# Altium integrated library 6130XX11121_61301611121.IntLib: 1 symbol
Pins are listed as number, name and electrical type; pins without a type are passive.

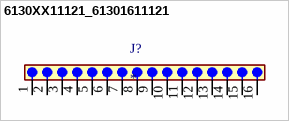
[diagram p0: symbol 6130XX11121_61301611121]

## 6130XX11121_61301611121
designator J?
MF: {'manufacturer': u'Wurth Electronics'}; MP: 61301611121; Package: None; Price: None; Value: *; Availability: Unavailable
footprint 61301611121
pins: 1, 2, 3, 4, 5, 6, 7, 8, 9, 10, 11, 12, 13, 14, 15, 16